# EAGLE library part HEADER_2X5 (library headers)
PIN HEADER
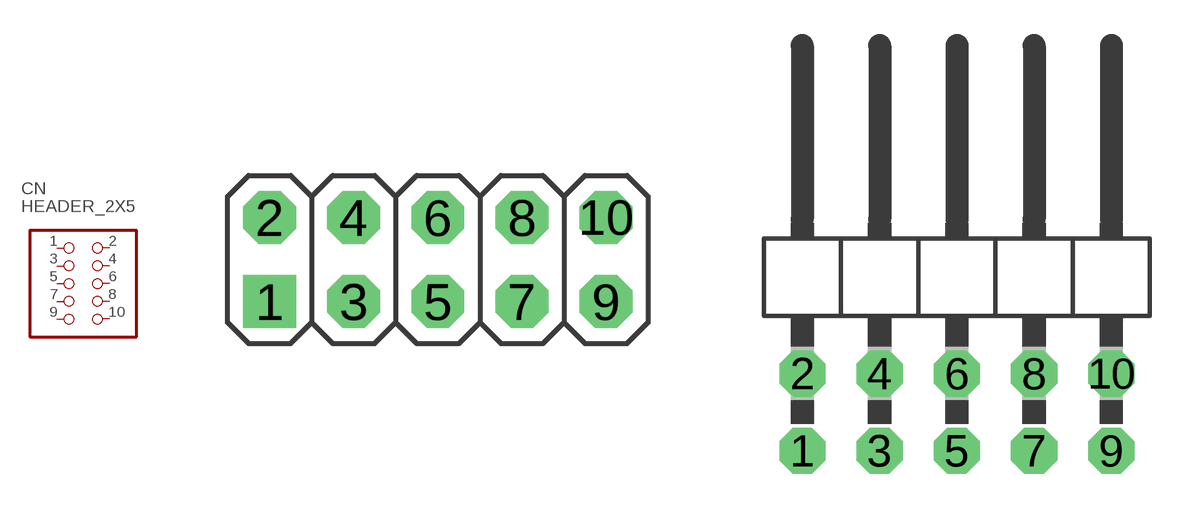
[diagram p24: symbol with the pads of 2X05; footprints 2X05, 2X05/90]

Designator prefix CN

## HEADER_2X5_2.54  [2X05]
1  1  pas
2  2  pas
3  3  pas
4  4  pas
5  5  pas
6  6  pas
7  7  pas
8  8  pas
9  9  pas
10  10  pas

## HEADER_2X5_2.54-90°  [2X05/90]
Pads as for 2X05

## HEADER_2X5_2.00  [2X05M]
Pads as for 2X05

## HEADER_2X5_2.54-SMD  [2X05SMD]
Pads as for 2X05

## HEADER_2X5_2.54-SMD-90°  [2X05SMD/90]
Pads as for 2X05

## Footprint 2X05 (pad centres in mm)
PIN HEADER - 2.54
drill 1 pad 1.6 square: 1 -5.08,-1.27
drill 1 pad 1.6 octagon: 2 -5.08,1.27; 3 -2.54,-1.27; 4 -2.54,1.27; 5 0,-1.27; 6 0,1.27; 7 2.54,-1.27; 8 2.54,1.27; 9 5.08,-1.27; 10 5.08,1.27

## Footprint 2X05/90 (pad centres in mm)
PIN HEADER - 2.54 90°
drill 1.016 octagon: 1 -5.08,-6.35; 2 -5.08,-3.81; 3 -2.54,-6.35; 4 -2.54,-3.81; 5 0,-6.35; 6 0,-3.81; 7 2.54,-6.35; 8 2.54,-3.81; 9 5.08,-6.35; 10 5.08,-3.81

## Footprint 2X05M (pad centres in mm)
PIN HEADER - 2
drill 0.7 pad 1.4 square: 1 -4,-1
drill 0.7 pad 1.4: 2 -4,1; 3 -2,-1; 4 -2,1; 5 0,-1; 6 0,1; 7 2,-1; 8 2,1; 9 4,-1; 10 4,1

## Footprint 2X05SMD (pad centres in mm)
PIN HEADER - 2.54 SMD
smd 1.016 x 3.302: 1 -5.08,-2.54; 2 -5.08,2.54; 3 -2.54,-2.54; 4 -2.54,2.54; 5 0,-2.54; 6 0,2.54; 7 2.54,-2.54; 8 2.54,2.54; 9 5.08,-2.54; 10 5.08,2.54

## Footprint 2X05SMD/90 (pad centres in mm)
PIN HEADER - 2.54 90°
smd 1.016 x 1.778: 1 -1.27,-8.89; 2 -1.27,-5.08; 3 1.27,-8.89; 4 1.27,-5.08; 5 3.81,-8.89; 6 3.81,-5.08; 7 6.35,-8.89; 8 6.35,-5.08; 9 8.89,-8.89; 10 8.89,-5.08